# EAGLE library part HEXABIT_?_X2_POWER_ONLY (library hexabitz_connectors)
Hexabitz Double Hexagon Power-Only Module Connector Hexagon side length = 17.32mm.
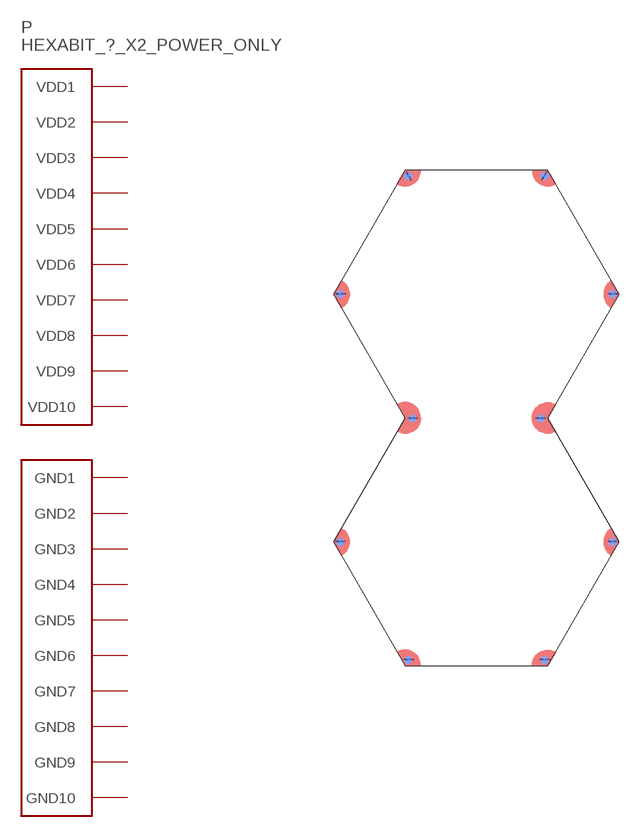
[diagram p18: symbol with the pads of HEXABIT_17.32_X2_POWER_ONLY; footprint HEXABIT_17.32_X2_POWER_ONLY]

Designator prefix P

## HEXABIT_17.32_X2_POWER_ONLY  [HEXABIT_17.32_X2_POWER_ONLY]
PAD_PD11  GND1  pwr
PAD_PD12  GND2  pwr
PAD_PD13  GND3  pwr
PAD_PD14  GND4  pwr
PAD_PD15  GND5  pwr
PAD_PD16  GND6  pwr
PAD_PD17  GND7  pwr
PAD_PD18  GND8  pwr
PAD_PD19  GND9  pwr
PAD_PD20  GND10  pwr
PAD_PU11  VDD1  pwr
PAD_PU12  VDD2  pwr
PAD_PU13  VDD3  pwr
PAD_PU14  VDD4  pwr
PAD_PU15  VDD5  pwr
PAD_PU16  VDD6  pwr
PAD_PU17  VDD7  pwr
PAD_PU18  VDD8  pwr
PAD_PU19  VDD9  pwr
PAD_PU20  VDD10  pwr

## Footprint HEXABIT_17.32_X2_POWER_ONLY (pad centres in mm)
smd 1 x 1 rotated 60 bottom: PAD_PD11 8.26,14.307
smd 1 x 1 bottom: PAD_PD12 16.52,0; PAD_PD13 7.752,-15.072; PAD_PD14 16.52,-30; PAD_PD15 8.26,-44.31; PAD_PD16 -8.26,-44.31; PAD_PD17 -16.52,-30; PAD_PD18 -7.752,-15.072; PAD_PD19 -16.52,0
smd 1 x 1 rotated 120 bottom: PAD_PD20 -8.26,14.307
smd 1 x 1 rotated 60: PAD_PU11 8.26,14.307
smd 1 x 1: PAD_PU12 16.52,0; PAD_PU13 7.752,-15.072; PAD_PU14 16.52,-30; PAD_PU15 8.26,-44.31; PAD_PU16 -8.26,-44.31; PAD_PU17 -16.52,-30; PAD_PU18 -7.752,-15.072; PAD_PU19 -16.52,0
smd 1 x 1 rotated 120: PAD_PU20 -8.26,14.307